# EAGLE library part STMPS2151TTR (library STMPS2151TTR)
Power Switch ICs - Power Distribution SGL CHNL PWR SWTCH Source: Datasheet <https://www.st.com/resource/en/datasheet/stmps2141.pdf>
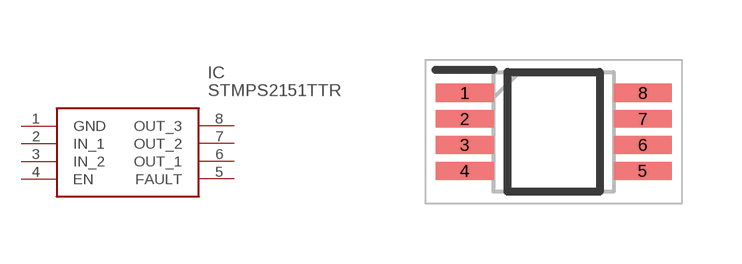
[diagram p0: symbol with the pads of SOP65P490X110-8N; footprint SOP65P490X110-8N]

Designator prefix IC

## STMPS2151TTR (Arrow_Part_Number: STMPS2151TTR; Arrow_Price-Stock: https://www.arrow.com/en/products/stmps2151ttr/stmicroelectronics; Description: Power Switch ICs - Power Distribution SGL CHNL PWR SWTCH; Height: 1.1mm; Manufacturer_Name: STMicroelectronics; Manufacturer_Part_Number: STMPS2151TTR; Mouser_Part_Number: 511-STMPS2151TTR; Mouser_Price-Stock: https://www.mouser.co.uk/ProductDetail/STMicroelectronics/STMPS2151TTR?qs=qolwYojYp3TtdEE8TCWfkg%3D%3D)  [SOP65P490X110-8N]
1  GND
2  IN_1
3  IN_2
4  EN
5  FAULT
6  OUT_1
7  OUT_2
8  OUT_3

## Footprint SOP65P490X110-8N (pad centres in mm)
MSOP8
smd 1.45 x 0.45: 1 -2.225,0.975; 2 -2.225,0.325; 3 -2.225,-0.325; 4 -2.225,-0.975; 5 2.225,-0.975; 6 2.225,-0.325; 7 2.225,0.325; 8 2.225,0.975